# Altium schematic symbol library LD1117S50CTR.SchLib: 1 symbol
Pins are listed as number, name and electrical type; pins without a type are passive.

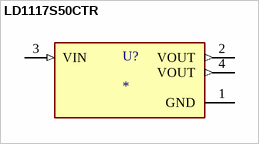
[diagram p0: symbol LD1117S50CTR]

## LD1117S50CTR
designator U?
Linear Voltage Regulator IC Positive Fixed 1 Output 800mA SOT-223; MF: STMicroelectronics; MP: LD1117S50CTR; Package: SOT-223 STMicroelectronics; Price: None; Check_prices: https://www.snapeda.com/parts/LD1117S50CTR/STMicroelectronics/view-part/?ref=eda; Value: *; SnapEDA_Link: https://www.snapeda.com/parts/LD1117S50CTR/STMicroelectronics/view-part/?ref=snap; Availability: In Stock; Purchase-URL: https://pricing.snapeda.com/search/part/LD1117S50CTR/?ref=eda
footprint SOT230P700X180-4N
pins: 1 GND (power), 2 VOUT (out), 3 VIN (in), 4 VOUT (out)